# Altium footprint library test1.PcbLib: 4 footprints
Each footprint in its own frame and in the unit in brackets; x right, y up, seen from the top. Pads: shape width x height; smd on the part's side, far side on the other; paste and mask are expansions set on the pad; w line width, h text height; cw(c..) or ccw(c..) is an arc to the next point about the centre after c.
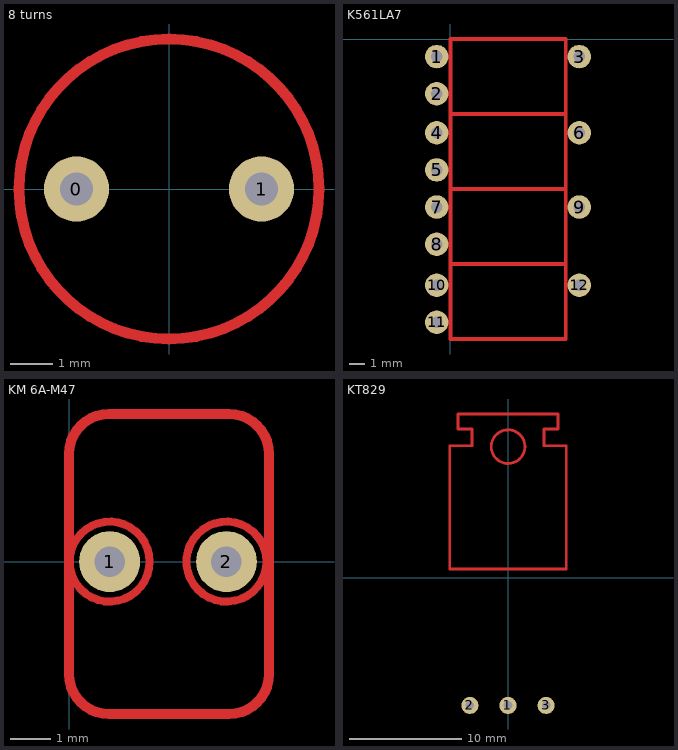
[diagram p0: the footprints below, top view; thin cyan lines are the x and y axes]

## 8 turns [mil]
pads (2):
  round 60 hole 30: 0(-85,0) 1(85,0)
Top Layer:
  circle w9.84: c0,0 r137.8

## K561LA7 [mil]
pads (12):
  round 60 hole 30: 1(-35,-45) 2(-35,-140) 3(330,-45) 4(-35,-240) 5(-35,-335) 6(330,-240) 7(-35,-430) 8(-35,-525) 9(330,-430) 10(-35,-630) 11(-35,-725) 12(330,-630)
Top Layer:
  lines w10: 0,-575.79 0,-383.86 ; 0,-575.79 295.28,-575.79 ; 0,-575.79 0,-767.72 295.28,-767.72 295.28,-575.79 ; 0,-383.86 0,-191.93 ; 0,-383.86 295.28,-383.86 ; 0,-191.93 0,0 295.28,0 295.28,-191.93 ; 0,-191.93 295.28,-191.93 ; 295.28,-575.79 295.28,-383.86 ; 295.28,-383.86 295.28,-191.93

## KM 6A-M47 [mil]
pads (2):
  round 60 hole 30: 1(40,0) 2(155,0)
Top Layer:
  circle w7.87: c40,0 r39.37
  circle w7.87: c155,0 r39.37
  lines w10: 0,-110.63 ccw(c39.37,-110.63) 39.37,-150 157.48,-150 ccw(c157.48,-110.63) 196.85,-110.63 196.85,105.91 ccw(c157.48,105.91) 157.48,145.28 39.37,145.28 ccw(c39.37,105.91) 0,105.91 0,-105 0,-110

## KT829 [mil]
pads (3):
  round 60 hole 30: 1(-0.28,-449.02) 2(-134.13,-449.02) 3(133.58,-449.02)
Top Layer:
  circle w10: c0,460 r59.06
  lines w10: -205,30 -205,463.07 -126.26,463.07 -126.26,522.13 -175.47,522.13 -175.47,574.61 174.92,574.61 174.92,522.13 125.71,522.13 125.71,463.07 204.45,463.07 204.45,30 -205,30